# EAGLE library part TL3843P (library TL3843P)
TL3843P, PWM Current Mode Controller, 0.2 A Boost, Flyback, 500 kHz 8-Pin PDIP Source: Datasheet <http://www.ti.com/lit/ds/symlink/tl3842.pdf>
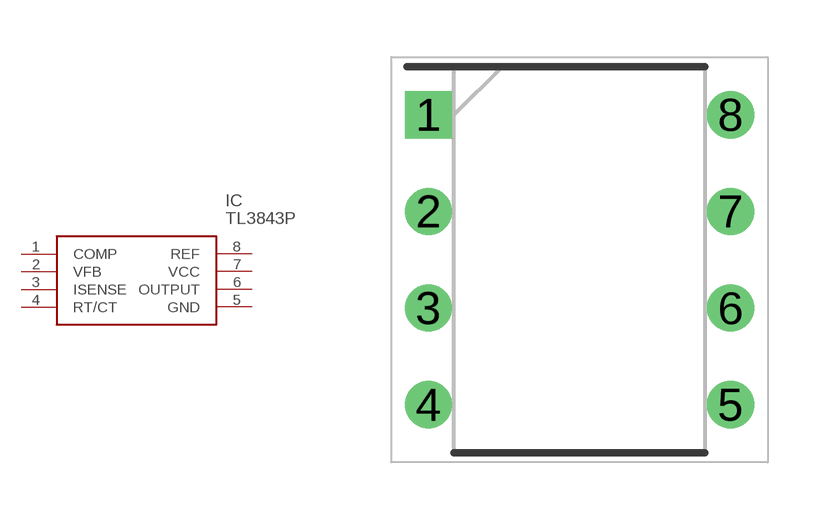
[diagram p0: symbol with the pads of DIP794W53P254L959H508Q8N; footprint DIP794W53P254L959H508Q8N]

Designator prefix IC

## TL3843P (Arrow_Part_Number: TL3843P; Arrow_Price-Stock: https://www.arrow.com/en/products/tl3843p/texas-instruments?region=nac; Description: TL3843P, PWM Current Mode Controller, 0.2 A Boost, Flyback, 500 kHz 8-Pin PDIP; Height: 5.08mm; Manufacturer_Name: Texas Instruments; Manufacturer_Part_Number: TL3843P; Mouser_Part_Number: 595-TL3843P; Mouser_Price-Stock: https://www.mouser.co.uk/ProductDetail/Texas-Instruments/TL3843P?qs=tJ5HNKWh3OU3fB%2FH2D3zVw%3D%3D)  [DIP794W53P254L959H508Q8N]
1  COMP
2  VFB
3  ISENSE
4  RT/CT
5  GND
6  OUTPUT
7  VCC
8  REF

## Footprint DIP794W53P254L959H508Q8N (pad centres in mm)
P (R-PDIP-T8)
drill 0.73 pad 1.13 square: 1 -3.97,3.81
drill 0.73 pad 1.13: 2 -3.97,1.27; 3 -3.97,-1.27; 4 -3.97,-3.81; 5 3.97,-3.81; 6 3.97,-1.27; 7 3.97,1.27; 8 3.97,3.81